# Altium footprint library Tranzistor.PcbLib: 241 footprints (part 6 of 16)
Each footprint in its own frame and in the unit in brackets; x right, y up, seen from the top. Pads: shape width x height; smd on the part's side, far side on the other; paste and mask are expansions set on the pad; w line width, h text height; cw(c..) or ccw(c..) is an arc to the next point about the centre after c.
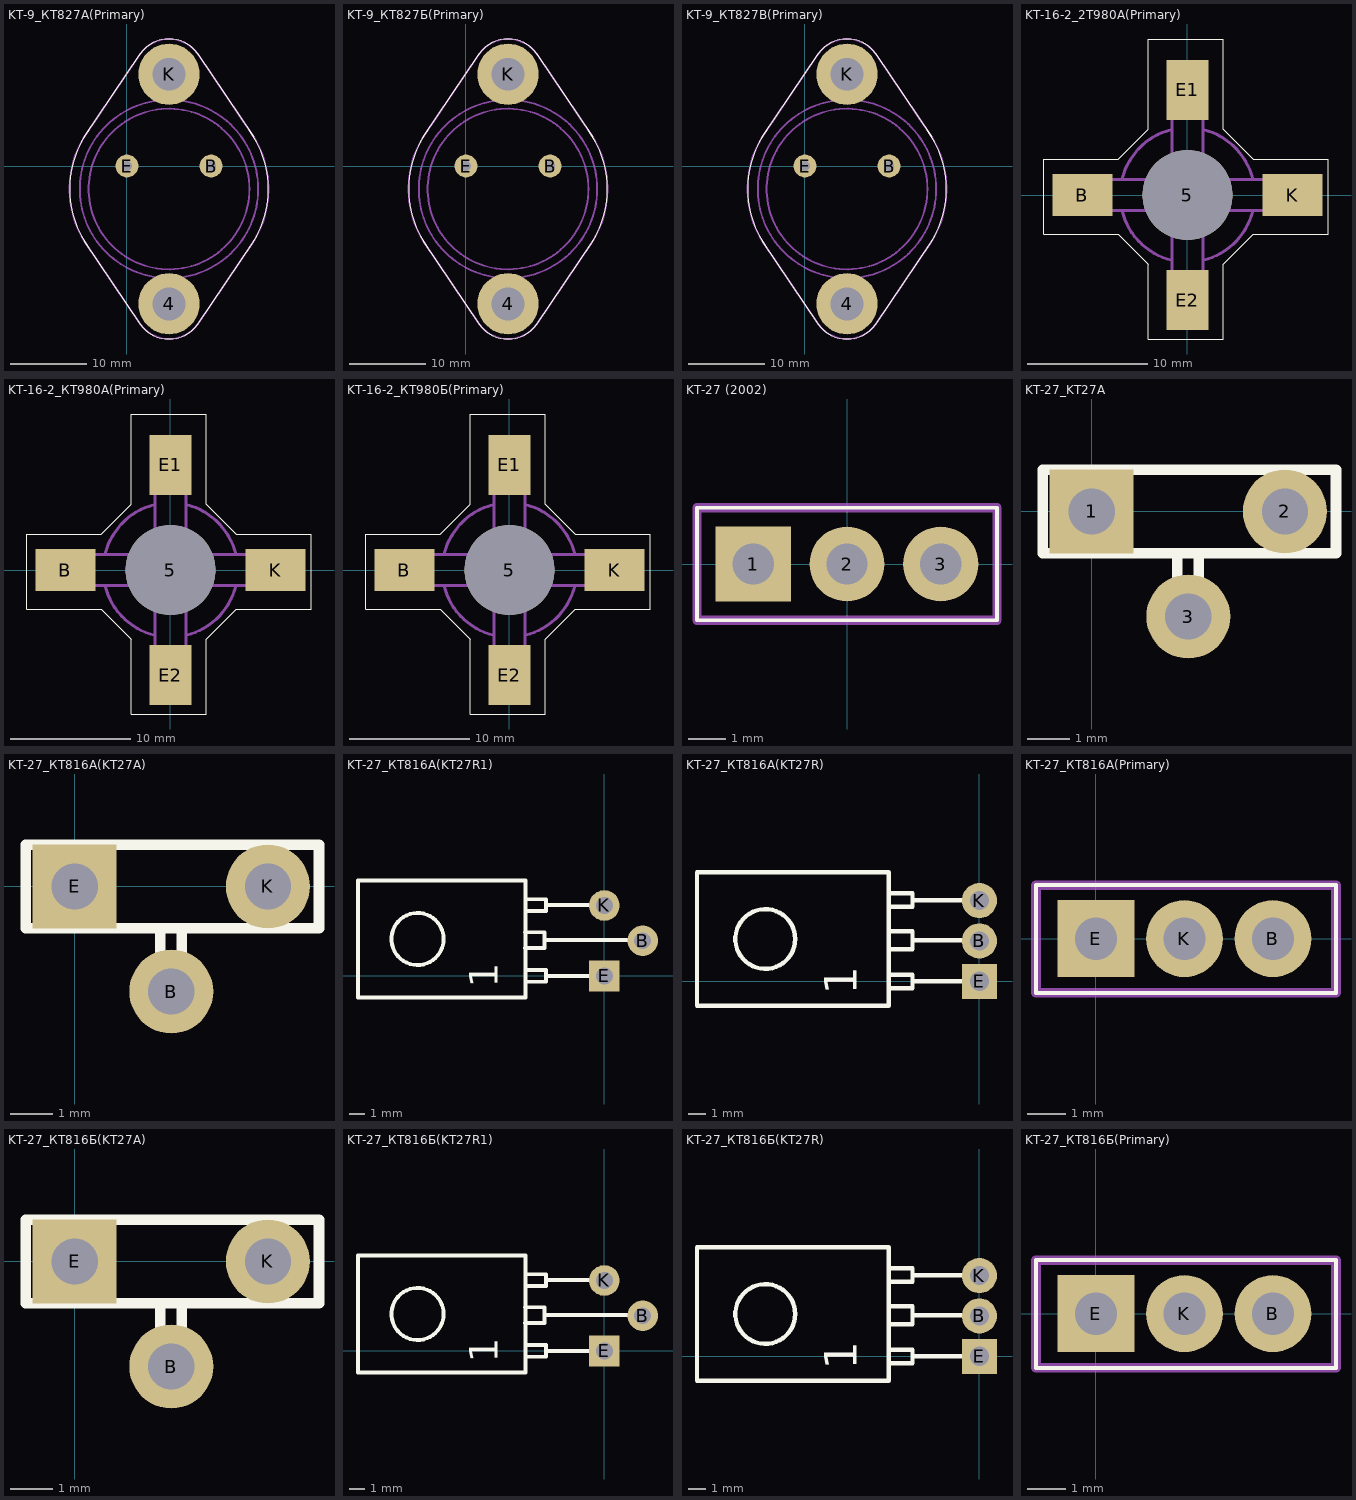
[diagram p5: the footprints below, top view; thin cyan lines are the x and y axes]

## KT-9_КТ827А(Primary) [mm]
pads (4):
  round 8 hole 4.3: 4(5.5,-18) K(5.5,12)
  round 3 hole 1.3: B(11,0) E(0,0)
Top Overlay:
  lines w0.1: -5.547,-9.854 1.762,-20.681 ; -5.547,3.855 1.762,14.683 ; -4.991,-10.677 cw(c5.5,-2.999) -4.978,4.697 ; 1.611,-20.457 ccw(c5.5,-17.999) 9.383,-20.464 ; 1.616,14.466 cw(c5.5,12.001) 9.388,14.459 ; 9.237,-20.681 16.546,-9.854 ; 9.237,14.683 16.546,3.855 ; 15.977,-10.695 ccw(c5.5,-2.999) 15.99,4.679
Mechanical 1:
  circle w0.25: c5.5,-2.999 r11.654
  circle w0.25: c5.5,-2.999 r10.5
  circle w0.25: c5.5,12.001 r2.05
  circle w0.25: c5.5,-17.999 r2.05
  lines w0.25: -5.547,-9.854 1.762,-20.681 ; -5.547,3.855 1.762,14.683 ; -4.991,-10.677 cw(c5.5,-2.999) -4.978,4.697 ; 1.611,-20.457 ccw(c5.5,-17.999) 9.383,-20.464 ; 1.616,14.466 cw(c5.5,12.001) 9.388,14.459 ; 9.237,-20.681 16.546,-9.854 ; 9.237,14.683 16.546,3.855 ; 15.977,-10.695 ccw(c5.5,-2.999) 15.99,4.679
  text "К" at 10,8.75 h1.5
  text "Б" at 10.5,1.75 h1.5
  text "Э" at -0.5,1.75 h1.5

## KT-9_КТ827Б(Primary) [mm]
pads (4):
  round 8 hole 4.3: 4(5.5,-18) K(5.5,12)
  round 3 hole 1.3: B(11,0) E(0,0)
Top Overlay:
  lines w0.1: -5.547,-9.854 1.762,-20.681 ; -5.547,3.855 1.762,14.683 ; -4.991,-10.677 cw(c5.5,-2.999) -4.978,4.697 ; 1.611,-20.457 ccw(c5.5,-17.999) 9.383,-20.464 ; 1.616,14.466 cw(c5.5,12.001) 9.388,14.459 ; 9.237,-20.681 16.546,-9.854 ; 9.237,14.683 16.546,3.855 ; 15.977,-10.695 ccw(c5.5,-2.999) 15.99,4.679
Mechanical 1:
  circle w0.25: c5.5,-2.999 r11.654
  circle w0.25: c5.5,-2.999 r10.5
  circle w0.25: c5.5,12.001 r2.05
  circle w0.25: c5.5,-17.999 r2.05
  lines w0.25: -5.547,-9.854 1.762,-20.681 ; -5.547,3.855 1.762,14.683 ; -4.991,-10.677 cw(c5.5,-2.999) -4.978,4.697 ; 1.611,-20.457 ccw(c5.5,-17.999) 9.383,-20.464 ; 1.616,14.466 cw(c5.5,12.001) 9.388,14.459 ; 9.237,-20.681 16.546,-9.854 ; 9.237,14.683 16.546,3.855 ; 15.977,-10.695 ccw(c5.5,-2.999) 15.99,4.679
  text "К" at 10,8.75 h1.5
  text "Б" at 10.5,1.75 h1.5
  text "Э" at -0.5,1.75 h1.5

## KT-9_КТ827В(Primary) [mm]
pads (4):
  round 8 hole 4.3: 4(5.5,-18) K(5.5,12)
  round 3 hole 1.3: B(11,0) E(0,0)
Top Overlay:
  lines w0.1: -5.547,-9.854 1.762,-20.681 ; -5.547,3.855 1.762,14.683 ; -4.991,-10.677 cw(c5.5,-2.999) -4.978,4.697 ; 1.611,-20.457 ccw(c5.5,-17.999) 9.383,-20.464 ; 1.616,14.466 cw(c5.5,12.001) 9.388,14.459 ; 9.237,-20.681 16.546,-9.854 ; 9.237,14.683 16.546,3.855 ; 15.977,-10.695 ccw(c5.5,-2.999) 15.99,4.679
Mechanical 1:
  circle w0.25: c5.5,-2.999 r11.654
  circle w0.25: c5.5,-2.999 r10.5
  circle w0.25: c5.5,12.001 r2.05
  circle w0.25: c5.5,-17.999 r2.05
  lines w0.25: -5.547,-9.854 1.762,-20.681 ; -5.547,3.855 1.762,14.683 ; -4.991,-10.677 cw(c5.5,-2.999) -4.978,4.697 ; 1.611,-20.457 ccw(c5.5,-17.999) 9.383,-20.464 ; 1.616,14.466 cw(c5.5,12.001) 9.388,14.459 ; 9.237,-20.681 16.546,-9.854 ; 9.237,14.683 16.546,3.855 ; 15.977,-10.695 ccw(c5.5,-2.999) 15.99,4.679
  text "К" at 10,8.75 h1.5
  text "Б" at 10.5,1.75 h1.5
  text "Э" at -0.5,1.75 h1.5

## KT-16-2_2Т980А(Primary) [mm]
pads (5):
  round 7.5 hole 7.5 unplated: 5(0,0)
  rect 5x3.5 smd: B(-8.75,0) K(8.75,0)
  rect 3.5x5 smd: E1(0,8.75) E2(0,-8.75)
Top Overlay:
  lines w0.1: -12,-3.25 -5.75,-3.25 -3.25,-5.75 -3.25,-12 3,-12 3,-5.75 5.5,-3.25 11.75,-3.25 11.75,3 5.5,3 3,5.5 3,13 -3.25,13 -3.25,5.5 -5.75,3 -12,3 -12,-3.25
Mechanical 1:
  circle w0.25: c-0.004,0.007 r2.8
  lines w0.25: -5.451,-1.291 ccw(c-0.004,0.007) -1.311,-5.439 ; -5.449,1.314 cw(c-0.004,0.007) -1.301,5.454 ; -2.484,-1.293 -10.254,-1.293 -10.254,0.007 -10.254,1.307 -2.484,1.307 ; -1.304,-2.473 -1.304,-10.243 -0.004,-10.243 1.296,-10.243 1.296,-2.473 ; -1.304,2.486 -1.304,10.257 -0.004,10.257 1.296,10.257 1.296,2.486 ; 1.294,-5.441 ccw(c-0.004,0.007) 5.442,-1.301 ; 1.304,5.452 cw(c-0.004,0.007) 5.444,1.304 ; 2.476,-1.293 8.474,-1.293 10.246,1.307 2.476,1.307

## KT-16-2_КТ980А(Primary) [mm]
pads (5):
  round 7.5 hole 7.5 unplated: 5(0,0)
  rect 5x3.5 smd: B(-8.75,0) K(8.75,0)
  rect 3.5x5 smd: E1(0,8.75) E2(0,-8.75)
Top Overlay:
  lines w0.1: -12,-3.25 -5.75,-3.25 -3.25,-5.75 -3.25,-12 3,-12 3,-5.75 5.5,-3.25 11.75,-3.25 11.75,3 5.5,3 3,5.5 3,13 -3.25,13 -3.25,5.5 -5.75,3 -12,3 -12,-3.25
Mechanical 1:
  circle w0.25: c-0.004,0.007 r2.8
  lines w0.25: -5.451,-1.291 ccw(c-0.004,0.007) -1.311,-5.439 ; -5.449,1.314 cw(c-0.004,0.007) -1.301,5.454 ; -2.484,-1.293 -10.254,-1.293 -10.254,0.007 -10.254,1.307 -2.484,1.307 ; -1.304,-2.473 -1.304,-10.243 -0.004,-10.243 1.296,-10.243 1.296,-2.473 ; -1.304,2.486 -1.304,10.257 -0.004,10.257 1.296,10.257 1.296,2.486 ; 1.294,-5.441 ccw(c-0.004,0.007) 5.442,-1.301 ; 1.304,5.452 cw(c-0.004,0.007) 5.444,1.304 ; 2.476,-1.293 8.474,-1.293 10.246,1.307 2.476,1.307

## KT-16-2_КТ980Б(Primary) [mm]
pads (5):
  round 7.5 hole 7.5 unplated: 5(0,0)
  rect 5x3.5 smd: B(-8.75,0) K(8.75,0)
  rect 3.5x5 smd: E1(0,8.75) E2(0,-8.75)
Top Overlay:
  lines w0.1: -12,-3.25 -5.75,-3.25 -3.25,-5.75 -3.25,-12 3,-12 3,-5.75 5.5,-3.25 11.75,-3.25 11.75,3 5.5,3 3,5.5 3,13 -3.25,13 -3.25,5.5 -5.75,3 -12,3 -12,-3.25
Mechanical 1:
  circle w0.25: c-0.004,0.007 r2.8
  lines w0.25: -5.451,-1.291 ccw(c-0.004,0.007) -1.311,-5.439 ; -5.449,1.314 cw(c-0.004,0.007) -1.301,5.454 ; -2.484,-1.293 -10.254,-1.293 -10.254,0.007 -10.254,1.307 -2.484,1.307 ; -1.304,-2.473 -1.304,-10.243 -0.004,-10.243 1.296,-10.243 1.296,-2.473 ; -1.304,2.486 -1.304,10.257 -0.004,10.257 1.296,10.257 1.296,2.486 ; 1.294,-5.441 ccw(c-0.004,0.007) 5.442,-1.301 ; 1.304,5.452 cw(c-0.004,0.007) 5.444,1.304 ; 2.476,-1.293 8.474,-1.293 10.246,1.307 2.476,1.307

## KT-27 (2002) [mm]
pads (3):
  rect 2x2 hole 1.1: 1(-2.5,0)
  round 2 hole 1.1: 2(0,0) 3(2.5,0)
Top Overlay:
  lines w0.1: -4,-1.5 4,-1.5 4,1.5 -4,1.5 -4,-1.5
Mechanical 1:
  lines w0.25: -4,-1.5 4,-1.5 4,0 4,1.5 -4,1.5 -4,-1.5

## KT-27_KT27A [mm]
pads (3):
  rect 2x2 hole 1.1: 1(0,0)
  round 2 hole 1.1: 2(4.6,0) 3(2.3,-2.5)
Top Overlay:
  lines w0.25: 2.043,-1.011 2.043,-2.56 2.551,-2.56 2.551,-1.011 ; -1.168,-0.991 5.817,-0.991 5.817,0.991 -1.168,0.991 -1.168,-0.991
  text "1" at -1.325,-1.053 h0.4

## KT-27_КТ816А(KT27A) [mm]
pads (3):
  round 2 hole 1.1: B(2.3,-2.5) K(4.6,0)
  rect 2x2 hole 1.1: E(0,0)
Top Overlay:
  lines w0.25: 2.043,-1.011 2.043,-2.56 2.551,-2.56 2.551,-1.011 ; -1.168,-0.991 5.817,-0.991 5.817,0.991 -1.168,0.991 -1.168,-0.991
  text "1" at -1.325,-1.053 h0.4

## KT-27_КТ816А(KT27R1) [mm]
pads (3):
  round 2 hole 1.1: B(2.5,2.3) K(0,4.6)
  rect 2x2 hole 1.1: E(0,0)
Top Overlay:
  circle w0.25: c-12.192,2.413 r1.702
  lines w0.25: -5.18,1.832 -3.91,1.832 -3.91,2.848 -5.18,2.848 ; -5.156,-0.381 -3.81,-0.381 -3.81,0.381 -5.156,0.381 ; -5.156,4.245 -3.81,4.245 -3.81,5.007 -5.156,5.007 ; -3.91,2.34 2.44,2.34 ; -3.81,0 -2.54,0 0,0 ; -3.81,4.626 -2.54,4.626 0,4.626 ; -16.078,-1.397 -5.156,-1.397 -5.156,6.223 -16.078,6.223 -16.078,-1.397
  text "1" at -6.35,-0.762 h3.17

## KT-27_КТ816А(KT27R) [mm]
pads (3):
  round 2 hole 1.1: B(0,2.3) K(0,4.6)
  rect 2x2 hole 1.1: E(0,0)
Top Overlay:
  circle w0.25: c-12.192,2.413 r1.702
  lines w0.25: -5.156,-0.381 -3.81,-0.381 -3.81,0.381 -5.156,0.381 ; -5.156,4.245 -3.81,4.245 -3.81,5.007 -5.156,5.007 ; -5.08,1.832 -3.81,1.832 -3.81,2.848 -5.08,2.848 ; -3.81,0 -2.54,0 0,0 ; -3.81,2.34 0,2.34 ; -3.81,4.626 -2.54,4.626 0,4.626 ; -16.078,-1.397 -5.156,-1.397 -5.156,6.223 -16.078,6.223 -16.078,-1.397
  text "1" at -6.35,-0.762 h3.17

## KT-27_КТ816А(Primary) [mm]
pads (3):
  round 2 hole 1.1: B(4.6,0) K(2.3,0)
  rect 2x2 hole 1.1: E(0,0)
Top Overlay:
  lines w0.1: -1.56,-1.41 6.24,-1.41 6.24,1.39 -1.56,1.39 -1.56,-1.41
Mechanical 1:
  lines w0.25: -1.56,-1.41 6.24,-1.41 6.24,1.39 -1.56,1.39 -1.56,-1.41

## KT-27_КТ816Б(KT27A) [mm]
pads (3):
  round 2 hole 1.1: B(2.3,-2.5) K(4.6,0)
  rect 2x2 hole 1.1: E(0,0)
Top Overlay:
  lines w0.25: 2.043,-1.011 2.043,-2.56 2.551,-2.56 2.551,-1.011 ; -1.168,-0.991 5.817,-0.991 5.817,0.991 -1.168,0.991 -1.168,-0.991
  text "1" at -1.325,-1.053 h0.4

## KT-27_КТ816Б(KT27R1) [mm]
pads (3):
  round 2 hole 1.1: B(2.5,2.3) K(0,4.6)
  rect 2x2 hole 1.1: E(0,0)
Top Overlay:
  circle w0.25: c-12.192,2.413 r1.702
  lines w0.25: -5.18,1.832 -3.91,1.832 -3.91,2.848 -5.18,2.848 ; -5.156,-0.381 -3.81,-0.381 -3.81,0.381 -5.156,0.381 ; -5.156,4.245 -3.81,4.245 -3.81,5.007 -5.156,5.007 ; -3.91,2.34 2.44,2.34 ; -3.81,0 -2.54,0 0,0 ; -3.81,4.626 -2.54,4.626 0,4.626 ; -16.078,-1.397 -5.156,-1.397 -5.156,6.223 -16.078,6.223 -16.078,-1.397
  text "1" at -6.35,-0.762 h3.17

## KT-27_КТ816Б(KT27R) [mm]
pads (3):
  round 2 hole 1.1: B(0,2.3) K(0,4.6)
  rect 2x2 hole 1.1: E(0,0)
Top Overlay:
  circle w0.25: c-12.192,2.413 r1.702
  lines w0.25: -5.156,-0.381 -3.81,-0.381 -3.81,0.381 -5.156,0.381 ; -5.156,4.245 -3.81,4.245 -3.81,5.007 -5.156,5.007 ; -5.08,1.832 -3.81,1.832 -3.81,2.848 -5.08,2.848 ; -3.81,0 -2.54,0 0,0 ; -3.81,2.34 0,2.34 ; -3.81,4.626 -2.54,4.626 0,4.626 ; -16.078,-1.397 -5.156,-1.397 -5.156,6.223 -16.078,6.223 -16.078,-1.397
  text "1" at -6.35,-0.762 h3.17

## KT-27_КТ816Б(Primary) [mm]
pads (3):
  round 2 hole 1.1: B(4.6,0) K(2.3,0)
  rect 2x2 hole 1.1: E(0,0)
Top Overlay:
  lines w0.1: -1.56,-1.41 6.24,-1.41 6.24,1.39 -1.56,1.39 -1.56,-1.41
Mechanical 1:
  lines w0.25: -1.56,-1.41 6.24,-1.41 6.24,1.39 -1.56,1.39 -1.56,-1.41